# Altium schematic symbol library HEADER-2x1.SchLib: 1 symbol
Pins are listed as number, name and electrical type; pins without a type are passive.

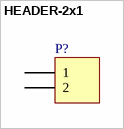
[diagram p0: symbol HEADER-2x1]

## HEADER-2x1
designator P?
Header, 2-Pin
pins: 1, 2